# EAGLE library part NVT2006 (library Tari)
6-bit open-drain bidirectional level shifter. Put voltages on the VREF inputs (A is low-voltage side, B high), and the pins on each side will reflect the values seen on the other.
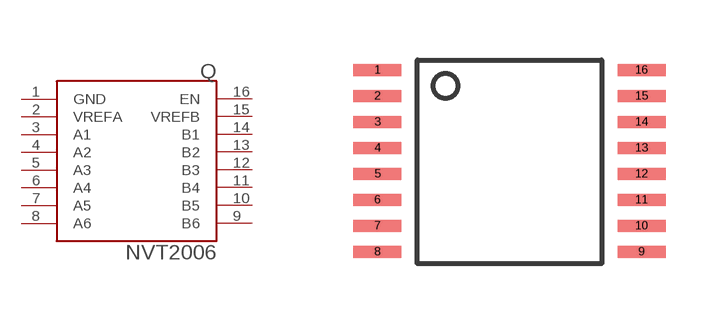
[diagram p4: symbol with the pads of TSSOP16; footprint TSSOP16]

Designator prefix Q

## NVT2006  [TSSOP16]
1  GND  pwr
2  VREFA  in
3  A1
4  A2
5  A3
6  A4
7  A5
8  A6
9  B6
10  B5
11  B4
12  B3
13  B2
14  B1
15  VREFB  in
16  EN  in

## Footprint TSSOP16 (pad centres in mm)
smd 1.2 x 0.3: 1 -3,3; 2 -3,2.35; 3 -3,1.7; 4 -3,1.05; 5 -3,0.4; 6 -3,-0.25; 7 -3,-0.9; 8 -3,-1.55; 9 3.6,-1.55; 10 3.6,-0.9; 11 3.6,-0.25; 12 3.6,0.4; 13 3.6,1.05; 14 3.6,1.7; 15 3.6,2.35; 16 3.6,3